# EAGLE library part 692121330100 (library WR-USB)
WR-COM USB 3.0 Type A Reverse Horizontal w. Offset 1.75 mm Electrical Properties IR 1.8 A Working Voltage 30 V (AC) Withstanding Voltage 100 V (AC) Contact Resistance 50 mΩ Material Properties Insulator Material LCP Insulator Flammability Rating UL94 V-0 Color Blue Contact Material Phosphor Bronze Contact Plating Matte Tin over Nickel Contact Type Stamped Shielding Material Brass Shielding Plating Matte Tin Kind Properties Durability 5 000 Mating cycles Quality Class 5 000 Mating cycles Connector Type USB Gender Receptacle Type Reverse Horizontal General Information Operating Temperature -20 up to +85 °C Compliance RoHS & Halogen free <https://www.we-online.com/catalog/media/o58968v209%20Family_Con_I-O_COM_USB-3_A_692121330100.jpg> Details see: https://www.we-online.com/catalog/en/COM_3_0_TYPE_A_REVERSE_HORIZONTAL_W_OFFSET_1_75MM/ Updated by Ella Wu 2022-01-17 2022 (C) Würth Elektronik
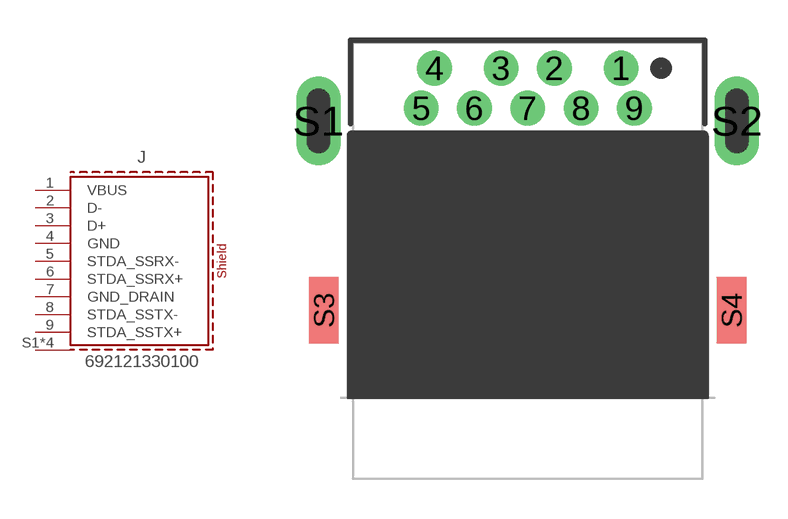
[diagram p3: symbol with the pads of 692121330100; footprint 692121330100]

Designator prefix J

## 692121330100 (APPLICATION: USB 3.0; DATASHEET-URL: https://www.we-online.com/redexpert/spec/692121330100?ae; GERDER: Receptacle; INTERFACE-TYPE: Type A; IR: 1.8A; MOUNT: THR; PACKAGING: Tape and Reel; PART-NUMBER: 692121330100; PINS: 9; TYPE: Reverse Horizontal; VALUE: 692121330100; WORKING-VOLTAGE: 30V(AC))  [692121330100]
1  VBUS  pas
2  D-  pas
3  D+  pas
4  GND  pas
5  STDA_SSRX-  pas
6  STDA_SSRX+  pas
7  GND_DRAIN  pas
8  STDA_SSTX-  pas
9  STDA_SSTX+  pas
S1  SHIELD  pas
S2  SHIELD  pas
S3  SHIELD  pas
S4  SHIELD  pas

## Footprint 692121330100 (pad centres in mm)
WR-COM USB 3.0 Type A Reverse Horizontal w. Offset 1.75 mm
drill 0.7 pad 1.3: 1 3.5,7.225; 2 1,7.225; 3 -1,7.225; 4 -3.5,7.225; 5 -4,5.725; 6 -2,5.725; 7 0,5.725; 8 2,5.725; 9 4,5.725
drill 0.8 pad 1.676 long: S1 -7.85,5.245; S2 7.85,5.245
smd 1.1 x 2.5: S3 -7.65,-1.855; S4 7.65,-1.855